# EAGLE library part 17791063215 (library Power modules)
POWER MODULE; VISM VARIABLE ISOL Manufacturer's datasheet <https://katalog.we-online.com/pm/datasheet/17791063215.pdf>
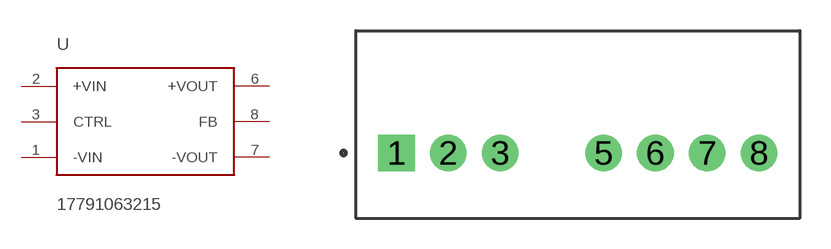
[diagram p5: symbol with the pads of 17791063215; footprint 17791063215]

Designator prefix U

## 17791063215 (CREATED_BY: PCBLayout.com; DIGIKEY_PART_NUMBER: 732-13775-5-ND; MANUFACTURER: Wurth Electronics Inc.; MPN: 17791063215; PACKAGE: 8-SIP)  [17791063215]
1  -VIN  pwr
2  +VIN  pwr
3  CTRL
6  +VOUT  pwr
7  -VOUT  pwr
8  FB

## Footprint 17791063215 (pad centres in mm)
drill 0.9 pad 1.8 square: 1 -8.89,0
drill 0.9 pad 1.8: 2 -6.35,0; 3 -3.81,0; 5 1.27,0; 6 3.81,0; 7 6.35,0; 8 8.89,0